# Altium integrated library 1986660-2.IntLib: 1 symbol
Pins are listed as number, name and electrical type; pins without a type are passive.

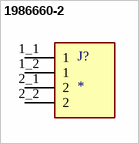
[diagram p0: symbol 1986660-2]

## 1986660-2
designator J?
MP: 1986660-2; MF: {'manufacturer': 'TE Connectivity'}; Package: None; Price: None; Value: *; Availability: Unavailable
footprint TE_1986660-2
pins: 1_1 1, 1_2 1, 2_1 2, 2_2 2